# Altium schematic symbol library Schlib1.SchLib: 2 symbols
Pins are listed as number, name and electrical type; pins without a type are passive.

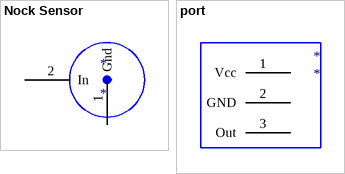
[diagram p0: symbols Nock Sensor to port]

## Nock Sensor
designator *
footprint Sensor
pins: 1 Gnd, 2 In

## port
designator *
footprint Port
pins: 1 Vcc, 2 GND, 3 Out